# Altium schematic symbol library AD9280.SchLib: 1 symbol
Pins are listed as number, name and electrical type; pins without a type are passive.

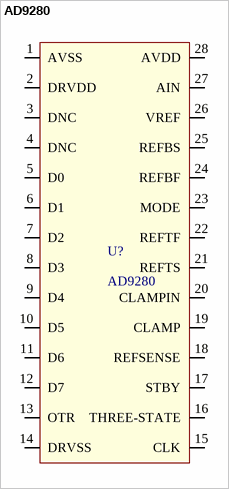
[diagram p0: symbol AD9280]

## AD9280
designator U?
Analog to Digital Converter
pins: 1 AVSS, 2 DRVDD, 3 DNC, 4 DNC, 5 D0, 6 D1, 7 D2, 8 D3, 9 D4, 10 D5, 11 D6, 12 D7, 13 OTR, 14 DRVSS, 15 CLK, 16 THREE-STATE, 17 STBY, 18 REFSENSE, 19 CLAMP, 20 CLAMPIN, 21 REFTS, 22 REFTF, 23 MODE, 24 REFBF, 25 REFBS, 26 VREF, 27 AIN, 28 AVDD